# EAGLE library part MA09-2 (library we-con)
Pin Header
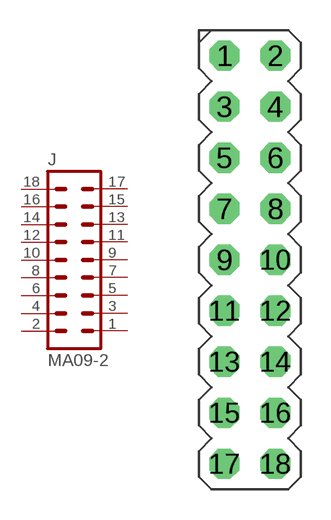
[diagram p11: symbol with the pads of MA09-2; footprint MA09-2]

Designator prefix J

## MA09-2  [MA09-2]
1  1  pas
2  2  pas
3  3  pas
4  4  pas
5  5  pas
6  6  pas
7  7  pas
8  8  pas
9  9  pas
10  10  pas
11  11  pas
12  12  pas
13  13  pas
14  14  pas
15  15  pas
16  16  pas
17  17  pas
18  18  pas

## Footprint MA09-2 (pad centres in mm)
drill 1 octagon: 1 -1.27,10.16; 2 1.27,10.16; 3 -1.27,7.62; 4 1.27,7.62; 5 -1.27,5.08; 6 1.27,5.08; 7 -1.27,2.54; 8 1.27,2.54; 9 -1.27,0; 10 1.27,0; 11 -1.27,-2.54; 12 1.27,-2.54; 13 -1.27,-5.08; 14 1.27,-5.08; 15 -1.27,-7.62; 16 1.27,-7.62; 17 -1.27,-10.16; 18 1.27,-10.16